# Altium footprint library PlacaDeDezvoltareGenerala.PcbLib: 15 footprints
Each footprint in its own frame and in the unit in brackets; x right, y up, seen from the top. Pads: shape width x height; smd on the part's side, far side on the other; paste and mask are expansions set on the pad; w line width, h text height; cw(c..) or ccw(c..) is an arc to the next point about the centre after c.
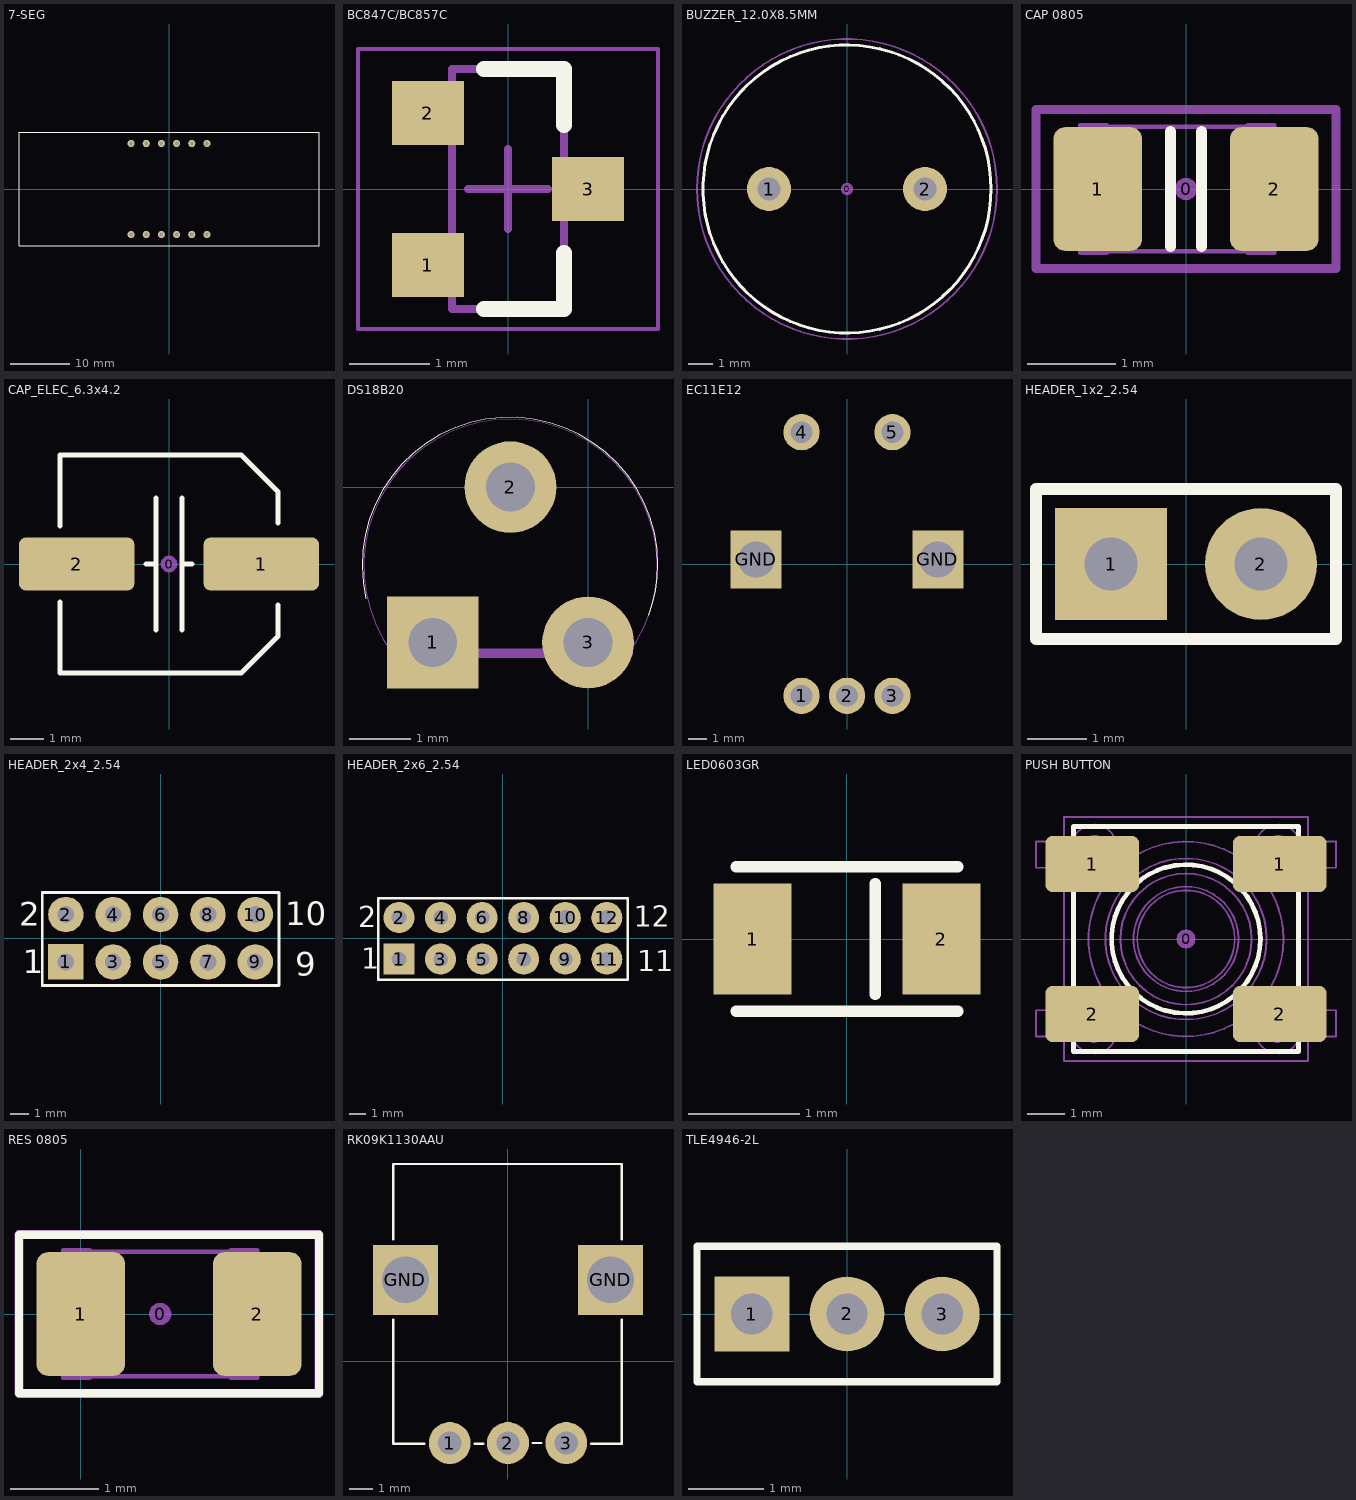
[diagram p0: the footprints below, top view; thin cyan lines are the x and y axes]

## 7-SEG [mm]
height 8
pads (12):
  round 1.2 hole 0.6: 1(-6.35,-7.62) 2(-3.81,-7.62) 3(-1.27,-7.62) 4(1.27,-7.62) 5(3.81,-7.62) 6(6.35,-7.62) 7(6.35,7.62) 8(3.81,7.62) 9(1.27,7.62) 10(-1.27,7.62) 11(-3.81,7.62) 12(-6.35,7.62)
Top Overlay:
  lines w0.15: -25.1,-9.5 0,-9.5 25.1,-9.5 25.1,9.5 0,9.5 -25.1,9.5 -25.1,-9.5
3D body "User Library-User Library-C-564 (7 segment 4 digit LED display).STEP": height 7.08, standoff -4.08, extent -18.822,-7 18.315,7

## BC847C/BC857C [mm] "SOT23, 3-Leads, Body 2.90x2.40mm, Pitch 0.90mm, IPC Medium Density"
height 1.1
pads (3):
  rect 0.9x0.8 smd: 1(-1,-0.95) 2(-1,0.95) 3(1,0)
Top Overlay:
  lines w0.2: -0.3,-1.5 0.7,-1.5 0.7,-0.8 ; -0.3,1.5 0.7,1.5 0.7,0.8
Mechanical 13:
  lines w0.1: -0.7,-1.5 0.7,-1.5 0.7,1.5 -0.7,1.5 -0.7,-1.5
Mechanical 15:
  lines w0.05: -1.875,-1.75 1.875,-1.75 1.875,1.75 -1.875,1.75 -1.875,-1.75
  lines w0.1: -0.5,0 0.5,0 ; 0,-0.5 0,0.5
3D body "SOT90P240X110-3N.step": height 1.1, standoff 0, extent -1.25,-1.5 1.25,1.5

## BUZZER_12.0X8.5MM [mil]
height 354.33
pads (3):
  round 20 on Mech15: 0(0,0)
  round 72 / inner round 72 / far side round 90 hole 38: 1(-127.95,0) 2(127.95,0)
Top Overlay:
  circle w5: c0,0 r236.22
Mechanical 13:
  circle w3: c0.14,-0.47 r236.22
Mechanical 15:
  circle w3: c0,0 r246.06
3D body "3100-xxx speaker 8.5mm.STEP": height 354.33, standoff -110.24, extent -246.02,-246.04 246.07,246.06
3D body "TH pad - 28 pin x 90.STEP": height 50, standoff 0, extent 83.31,-44.9 172.96,44.92
3D body "TH pad - 28 pin x 90.STEP": height 50, standoff 0, extent -172.59,-44.91 -82.95,44.92

## CAP 0805 [mm] "Chip Capacitor 0805 SMD Gabbar"
height 1.35
pads (3):
  round 0.254 on Mech15: 0(0,0)
  rrect25% 1x1.4 smd: 1(-1,0) 2(1,0)
Top Overlay:
  lines w0.127: -0.175,-0.65 -0.175,0.652 ; 0.175,-0.65 0.175,0.652
Mechanical 13:
  lines w0.05: -0.9,-0.705 0.7,-0.705 ; -0.9,0.705 0.7,0.705 ; -1.2,-0.725 -0.9,-0.725 -0.9,0.725 -1.2,0.725 -1.2,-0.725 ; 0.7,-0.725 0.7,0.725 1,0.725 1,-0.725 0.7,-0.725
Mechanical 15:
  lines w0.1: -1.7,-0.9 1.7,-0.9 1.7,0.9 -1.7,0.9 -1.7,-0.9
3D body "SW3DPS-CAPACITOR 0805-DEFAULT.STEP": height 0.73, standoff -0.03, extent -0.9,-0.655 1.1,0.655

## CAP_ELEC_6.3x4.2 [mm] "Capacitor, polarized, aluminum can; 6.3x4.2mm DxH"
height 4.2
pads (3):
  round 0.508 on Mech15: 0(0,0)
  rrect25% 3.5x1.6 smd: 1(2.8,0) 2(-2.8,0)
Top Overlay:
  lines w0.152: -3.3,-1.15 -3.3,-3.3 2.2,-3.3 3.3,-2.2 3.3,-1.25 ; -3.3,1.15 -3.3,3.3 2.2,3.3 3.3,2.2 3.3,1.25 ; -0.7,0 -0.5,0 ; -0.4,-2 -0.4,2 ; 0.4,-2 0.4,2 ; 0.5,0 0.7,0
3D body "Cap, elec, 6.3x4.2.STEP": height 4.23, standoff 0, extent -3.3,-3.3 3.3,3.3

## DS18B20 [mm]
pads (3):
  rect 1.5x1.5 hole 0.8: 1(-2.54,-2.54)
  round 1.5 hole 0.8: 2(-1.27,0) 3(0,-2.54)
Top Overlay:
  lines w0: -3.634,-1.822 cw(c-1.276,-1.277) 1.143,-1.277 ; 0.995,-2.096 ccw(c-1.31,-1.257) 1.143,-1.257
Mechanical 4:
  lines w0: -3.213,-2.701 cw(c-1.27,-1.289) 0.648,-2.735 ccw(c-1.27,-1.289) -3.213,-2.701
  lines w0.152: -3.2,-2.718 0.66,-2.718 -3.2,-2.718

## EC11E12 [mm]
pads (7):
  round 2 hole 1.2: 1(-2.5,-7.25) 2(0,-7.25) 3(2.5,-7.25) 4(-2.5,7.25) 5(2.5,7.25)
  rect 2.8x3.2 hole 2 square: GND(-5,0.25) GND(5,0.25)
3D body "User Library-EC11B15244.STEP": height 31.6, standoff -3.47, extent -6.524,-7.576 6.574,7.55

## HEADER_1x2_2.54 [mm] "Connector; Header; 2 Position"
pads (2):
  rect 1.9x1.9 hole 0.9: 1(-1.27,0)
  round 1.9 hole 0.9: 2(1.27,0)
Top Overlay:
  lines w0.2: -2.54,-1.27 -2.54,1.27 2.54,1.27 2.54,-1.27 -2.54,-1.27
3D body "961102-6404-XX.stp": height 8.05, standoff -3.25, extent -2.57,-1.3 2.51,1.2

## HEADER_2x4_2.54 [mm] "Connector; Header; 4x2 Position"
pads (10):
  rect 1.9x1.9 hole 0.9: 1(-5.08,-1.27)
  round 1.9 hole 0.9: 2(-5.08,1.27) 3(-2.54,-1.27) 4(-2.54,1.27) 5(0,-1.27) 6(0,1.27) 7(2.54,-1.27) 8(2.54,1.27) 9(5.08,-1.27) 10(5.08,1.27)
Top Overlay:
  lines w0.15: -6.35,-2.54 -6.35,2.46 6.35,2.46 6.35,-2.54 -6.35,-2.54
  text "10" at 6.7,0.7 h1.27
  text "1" at -7.38,-1.87 h1.27
  text "2" at -7.592,0.681 h1.27
  text "9" at 7.229,-2 h1.27
3D body "961102-6404-XX.stp": height 8.05, standoff -3.25, extent 3.88,-2.57 6.38,2.51
3D body "961102-6404-XX.stp": height 8.05, standoff -3.25, extent 1.34,-2.57 3.84,2.51
3D body "961102-6404-XX.stp": height 8.05, standoff -3.25, extent -1.2,-2.57 1.3,2.51
3D body "961102-6404-XX.stp": height 8.05, standoff -3.25, extent -3.74,-2.57 -1.24,2.51
3D body "961102-6404-XX.stp": height 8.05, standoff -3.25, extent -6.28,-2.57 -3.78,2.51

## HEADER_2x6_2.54 [mm] "Connector; Header; 6x2 Position"
pads (12):
  rect 1.9x1.9 hole 0.9: 1(-6.35,-1.27)
  round 1.9 hole 0.9: 2(-6.35,1.27) 3(-3.81,-1.27) 4(-3.81,1.27) 5(-1.27,-1.27) 6(-1.27,1.27) 7(1.27,-1.27) 8(1.27,1.27) 9(3.81,-1.27) 10(3.81,1.27) 11(6.35,-1.27) 12(6.35,1.27)
Top Overlay:
  lines w0.15: -7.62,-2.54 -7.62,2.46 7.62,2.46 7.62,-2.54 -7.62,-2.54
  text "12" at 8,0.7 h1.27
  text "1" at -8.65,-1.87 h1.27
  text "2" at -8.862,0.681 h1.27
  text "11" at 8.212,-2 h1.27
3D body "961102-6404-XX.stp": height 8.05, standoff -3.25, extent 2.61,-2.57 5.11,2.51
3D body "961102-6404-XX.stp": height 8.05, standoff -3.25, extent 0.07,-2.57 2.57,2.51
3D body "961102-6404-XX.stp": height 8.05, standoff -3.25, extent -2.47,-2.57 0.03,2.51
3D body "961102-6404-XX.stp": height 8.05, standoff -3.25, extent -5.01,-2.57 -2.51,2.51
3D body "961102-6404-XX.stp": height 8.05, standoff -3.25, extent -7.55,-2.57 -5.05,2.51
3D body "961102-6404-XX.stp": height 8.05, standoff -3.25, extent 5.15,-2.57 7.65,2.51

## LED0603GR [mm] "Chip Capacitor; Body 1.6 x 0.8 mm (LxW typ)"
height 0.87
pads (2):
  rect 0.7x1 smd: 1(-0.85,0) 2(0.85,0)
Top Overlay:
  lines w0.1: -1,-0.65 1,-0.65 ; -1,0.65 1,0.65 ; 0.254,-0.5 0.254,0.5
3D body "led0603_GRE.step": height 1.1, standoff 0, extent -0.81,-0.4 0.81,0.4

## PUSH BUTTON [mm] "6.5x6.5mm SMD tact switch 4.3mm stem"
height 4.3
pads (5):
  round 0.508 on Mech14: 0(0,0)
  rrect25% 2.5x1.5 smd: 1(-2.5,2) 1(2.5,2) 2(-2.5,-2) 2(2.5,-2)
Top Overlay:
  circle w0.127: c0,0 r1.984
  lines w0.127: -3,-3 -3,3 3,3 3,-3 -3,-3
Mechanical 13:
  circle w0.05: c0,0 r1.4
  circle w0.05: c0,0 r1.3
  circle w0.05: c0,-0.002 r1.75
  circle w0.05: c0,0 r2.15
  circle w0.05: c0,0 r2.6
  circle w0.05: c2.45,2.452 r0.3
  circle w0.05: c-2.45,2.452 r0.3
  circle w0.05: c2.45,-2.448 r0.3
  circle w0.05: c-2.45,-2.448 r0.3
  circle w0.05: c-2.45,2.45 r0.6
  circle w0.05: c2.45,2.45 r0.6
  circle w0.05: c2.45,-2.45 r0.6
  circle w0.05: c-2.45,-2.45 r0.6
  lines w0.05: -3.591,-2.6 -3.591,-1.9 ; -3.591,1.9 -3.591,2.6 ; -3.571,-2.6 -3.571,-1.9 ; -3.571,1.9 -3.571,2.6 ; -3.468,-2.6 -3.468,-1.9 ; -3.468,1.9 -3.468,2.6 ; -3.253,-2.6 -3.253,-1.9 ; -3.253,1.9 -3.253,2.6 ; -3.25,-2.6 -4,-2.6 -4,-1.9 -3.25,-1.9 ; -3.25,1.9 -4,1.9 -4,2.6 -3.25,2.6 ; 3.25,-2.6 4,-2.6 4,-1.9 3.25,-1.9 ; 3.25,1.9 4,1.9 4,2.6 3.25,2.6 ; 3.253,-2.6 3.253,-1.9 ; 3.253,1.9 3.253,2.6 ; 3.468,-2.6 3.468,-1.9 ; 3.468,1.9 3.468,2.6 ; 3.571,-2.6 3.571,-1.9 ; 3.571,1.9 3.571,2.6 ; 3.591,-2.6 3.591,-1.9 ; 3.591,1.9 3.591,2.6 ; -3.25,-3.25 3.25,-3.25 3.25,3.25 -3.25,3.25 -3.25,-3.25
3D body "TS-1143S-WP.STEP": height 4.3, standoff 0, extent -4,-3.25 4,3.25

## RES 0805 [mm] "Chip Resistor 0805 SMD Gabbar"
height 0.7
pads (3):
  round 0.254 on Mech15: 0(0.9,0)
  rrect25% 1x1.4 smd: 1(0,0) 2(2,0)
Top Overlay:
  lines w0.095: -0.7,-0.9 -0.7,0.9 2.7,0.9 2.7,-0.9 -0.7,-0.9
Mechanical 13:
  lines w0.05: 0.1,-0.705 1.7,-0.705 ; 0.1,0.705 1.7,0.705 ; -0.2,-0.725 -0.2,0.725 0.1,0.725 0.1,-0.725 -0.2,-0.725 ; 1.7,-0.725 2,-0.725 2,0.725 1.7,0.725 1.7,-0.725
Mechanical 15:
  lines w0.1: -0.7,-0.9 -0.7,0.9 2.7,0.9 2.7,-0.9 -0.7,-0.9
3D body "SW3DPS-RESISTOR 0805-DEFAULT.STEP": height 0.43, standoff -0.03, extent 0,-0.63 2,0.63

## RK09K1130AAU [mm] "10K Potentiometer"
pads (5):
  round 1.8 hole 1: 1(-2.5,-3.5) 2(0,-3.5) 3(2.5,-3.5)
  rect 2.8x3 hole 2 square: GND(-4.4,3.5) GND(4.4,3.5)
Top Overlay:
  lines w0.1: -4.925,1.787 -4.925,-3.527 -3.583,-3.527 ; -4.925,5.234 -4.925,8.473 4.875,8.473 4.875,5.234 ; -1.434,-3.527 -1.055,-3.527 ; 1.059,-3.5 1.438,-3.5 ; 3.565,-3.527 4.875,-3.527 4.875,1.787

## TLE4946-2L [mm] "Hall Latch"
pads (3):
  rect 1x1 hole 0.55: 1(-1.27,0)
  round 1 hole 0.55: 2(0,0) 3(1.27,0)
Top Overlay:
  lines w0.1: -2,-0.9 2,-0.9 2,0.9 -2,0.9 -2,-0.9